# EAGLE library part FT245RL (library FTDI)
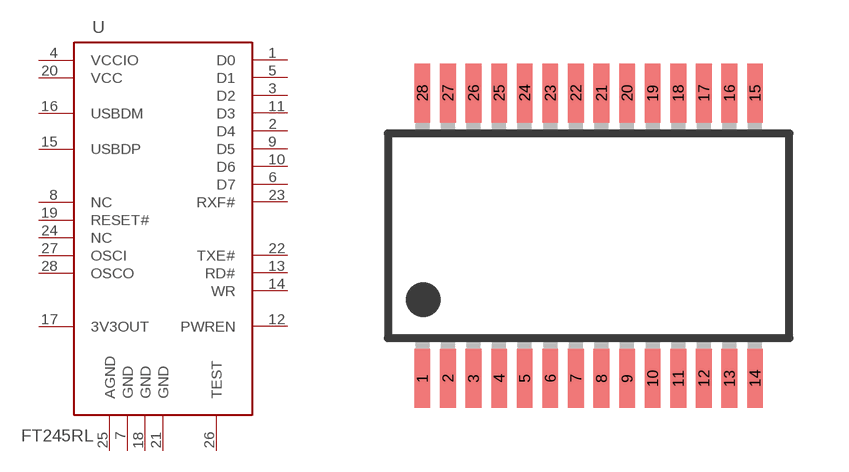
[diagram p3: symbol with the pads of SSOP28; footprint SSOP28]

Designator prefix -

## FT245RLAAA  [SSOP28]
1  D0
2  D4
3  D2
4  VCCIO  in
5  D1
6  D7
7  GND  sup
8  NC  in
9  D5
10  D6
11  D3
12  PWREN  out
13  RD#  in
14  WR  out
15  USBDP
16  USBDM
17  3V3OUT  out
18  GND  sup
19  RESET#  in
20  VCC  pwr
21  GND  sup
22  TXE#  in
23  RXF#  out
24  NC  in
25  AGND  in
26  TEST  in
27  OSCI  in
28  OSCO  out

## Footprint SSOP28 (pad centres in mm)
Shrink Small Outline Package SSOP-28 http://www.ftdichip.com/Documents/DataSheets/DS_FT232R_v104.pdf
smd 0.4 x 1.5: 1 -4.225,-3.625; 2 -3.575,-3.625; 3 -2.925,-3.625; 4 -2.275,-3.625; 5 -1.625,-3.625; 6 -0.975,-3.625; 7 -0.325,-3.625; 8 0.325,-3.625; 9 0.975,-3.625; 10 1.625,-3.625; 11 2.275,-3.625; 12 2.925,-3.625; 13 3.575,-3.625; 14 4.225,-3.625; 15 4.225,3.625; 16 3.575,3.625; 17 2.925,3.625; 18 2.275,3.625; 19 1.625,3.625; 20 0.975,3.625; 21 0.325,3.625; 22 -0.325,3.625; 23 -0.975,3.625; 24 -1.625,3.625; 25 -2.275,3.625; 26 -2.925,3.625; 27 -3.575,3.625; 28 -4.225,3.625